# Altium footprint library E-Switch Tactile.PcbLib: 1 footprints
Each footprint in its own frame and in the unit in brackets; x right, y up, seen from the top. Pads: shape width x height; smd on the part's side, far side on the other; paste and mask are expansions set on the pad; w line width, h text height; cw(c..) or ccw(c..) is an arc to the next point about the centre after c.
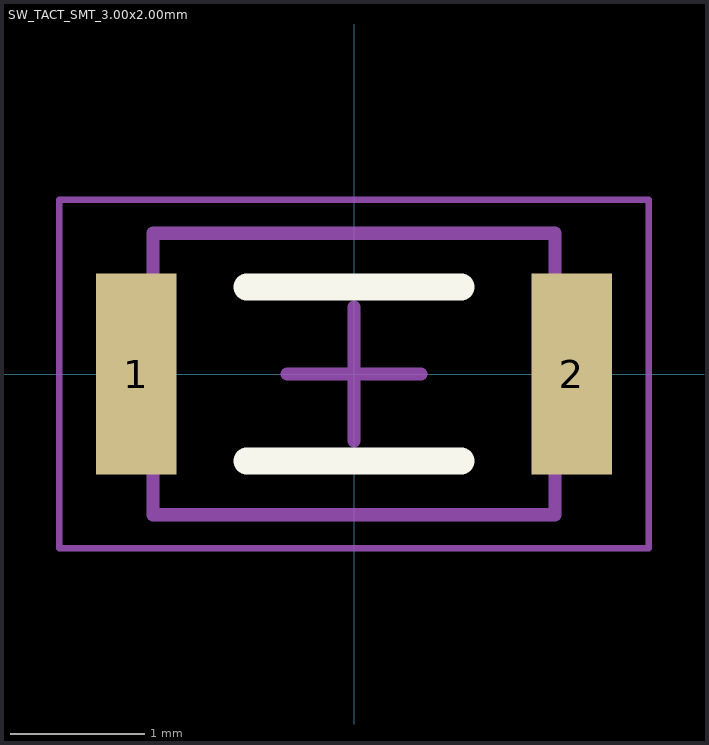
[diagram p0: the footprint, top view; thin cyan lines are the x and y axes]

## SW_TACT_SMT_3.00x2.00mm [mm] "Tact Switch, Surface Mount, 2 Leads, Body 3.00(L) x 2.00(W) x 0.6(H) mm"
height 0.48
pads (2):
  rect 0.6x1.5 smd: 1(-1.625,0) 2(1.625,0)
Top Overlay:
  lines w0.2: -0.8,-0.65 0.8,-0.65 ; -0.8,0.65 0.8,0.65
Mechanical 13:
  lines w0.1: -1.5,-1.05 1.5,-1.05 1.5,1.05 -1.5,1.05 -1.5,-1.05
Mechanical 15:
  lines w0.05: -2.2,-1.3 2.2,-1.3 2.2,1.3 -2.2,1.3 -2.2,-1.3
  lines w0.1: -0.5,0 0.5,0 ; 0,-0.5 0,0.5
3D body: height 0.48, standoff 0, extent 1.3,-1.05 1.5,1.05
3D body: height 0.48, standoff 0, extent -1.502,-1.05 -1.3,1.05
3D body: height 0.48, standoff 0, extent -1.3,-1.05 1.3,1.05